# Altium schematic symbol library THS6012.Schlib: 1 symbol
Pins are listed as number, name and electrical type; pins without a type are passive.

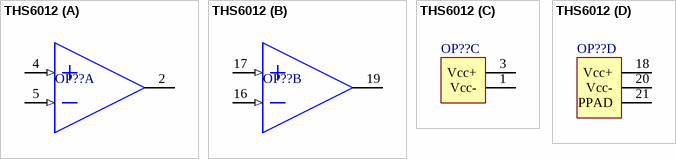
[diagram p0: symbol THS6012]

## THS6012
designator OP??
part A pins: 2, 4 (in), 5 (in)
part B pins: 16 (in), 17 (in), 19
part C pins: 1 Vcc- (power), 3 Vcc+ (power)
part D pins: 6, 7, 8, 9, 10, 11, 12, 13, 14, 15, 18 Vcc+ (power), 20 Vcc- (power), 21 PPAD